# EAGLE library part PIC12*F1612 (library microchip_pic12f)
Low pincount microcontroller http://www.microchip.com/wwwproducts/Devices.aspx?product=PIC12F1612 Properties Parameter Name Value Program Memory Type Flash Program Memory (KB) 3.5 CPU Speed (MIPS) 8 RAM Bytes 256 Capture/Compare/PWM Peripherals 2 CCP Timers 4 x 8-bit, 1 x 16-bit Comparators 1 Temperature Range (C) -40 to 125 Operating Voltage Range (V) 2.3 to 5.5 Pin Count 8 XLP Yes Features Flash Program Memory with self read/write capability Enhanced Mid-Range Core, Internal 32MHz oscillator 2 x 24-bit Signal Measurement Timer (SMT) Analog Comparators 2 x Capture-Compare-PWM (CCP) 4 x 10-bit Analog-to-Digital Converter (ADC) with voltage reference Complementary Waveform Generator (CWG): Zero Cross Detection (ZCD) Windowed Watchdog Timer (WWDT) CRC: 16-bit with DMA Power-On Reset (POR), Brown-Out Reset (BOR) In Circuit Serial Programming (ICSP) Wide Operating Voltage of PIC12F1612 variant (2.3V – 5.5V) Enhanced Low-Voltage PIC12LF1612 variant (1.8V - 3.6V) Library from www.mikroelektroniikka.fi/lbr
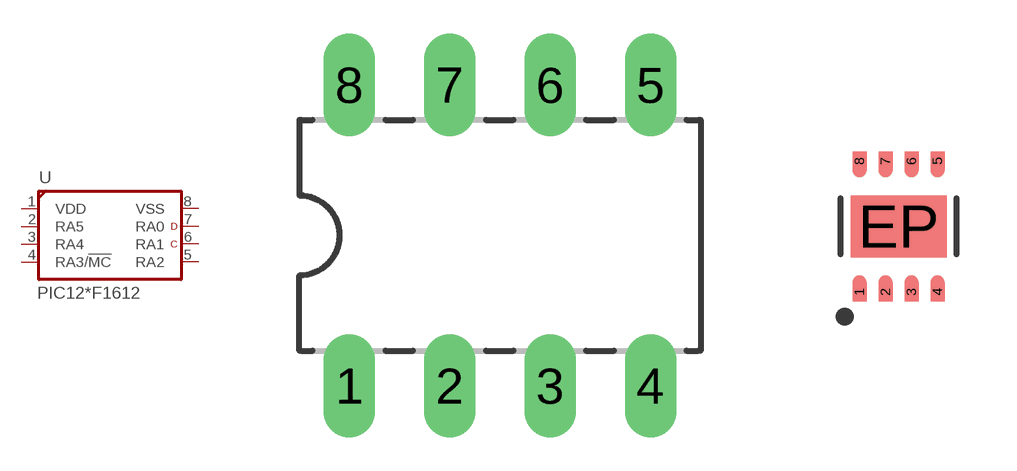
[diagram p6: symbol with the pads of DIL8-P; footprints DIL8-P, DFN8-MF]

Designator prefix U

## PIC12F1612/P, PIC12LF1612/P  [DIL8-P]
1  VDD  pas
2  RA5
3  RA4
4  RA3/!MC!
5  RA2
6  RA1
7  RA0
8  VSS  pas

## PIC12F1612/MF, PIC12LF1612/MF  [DFN8-MF]
1  VDD  pas
2  RA5
3  RA4
4  RA3/!MC!
5  RA2
6  RA1
7  RA0
8  VSS  pas
EP  VSS  pas

## PIC12F1612/SN, PIC12LF1612/SN  [SOIC8-SN]
Pads as for DIL8-P

## Footprint DIL8-P (pad centres in mm)
PDIP8 (P) 8-Lead plastic dual in line - 300mil body
drill 0.8 pad 1.3 long: 1 -3.81,-3.81; 2 -1.27,-3.81; 3 1.27,-3.81; 4 3.81,-3.81; 5 3.81,3.81; 6 1.27,3.81; 7 -1.27,3.81; 8 -3.81,3.81

## Footprint DFN8-MF (pad centres in mm)
DFN8 (MF) 8-Lead plastic dual flat, no lead package - 3x3x0.9mm (Microchip)
smd 0.35 x 0.475: 1 -0.975,-1.637; 2 -0.325,-1.637; 3 0.325,-1.637; 4 0.975,-1.637; 5 0.975,1.637; 6 0.325,1.637; 7 -0.325,1.637; 8 -0.975,1.637
smd 2.4 x 1.55: EP 0,0

## Footprint SOIC8-SN (pad centres in mm)
SOIC8 (SN) 8-Lead plastic small outline - narrow - 3.9 mm body
smd 0.6 x 1.5: 1 -1.905,-2.7; 2 -0.635,-2.7; 3 0.635,-2.7; 4 1.905,-2.7; 5 1.905,2.7; 6 0.635,2.7; 7 -0.635,2.7; 8 -1.905,2.7